# Altium footprint library ESP-01.PcbLib: 1 footprints
Each footprint in its own frame and in the unit in brackets; x right, y up, seen from the top. Pads: shape width x height; smd on the part's side, far side on the other; paste and mask are expansions set on the pad; w line width, h text height; cw(c..) or ccw(c..) is an arc to the next point about the centre after c.
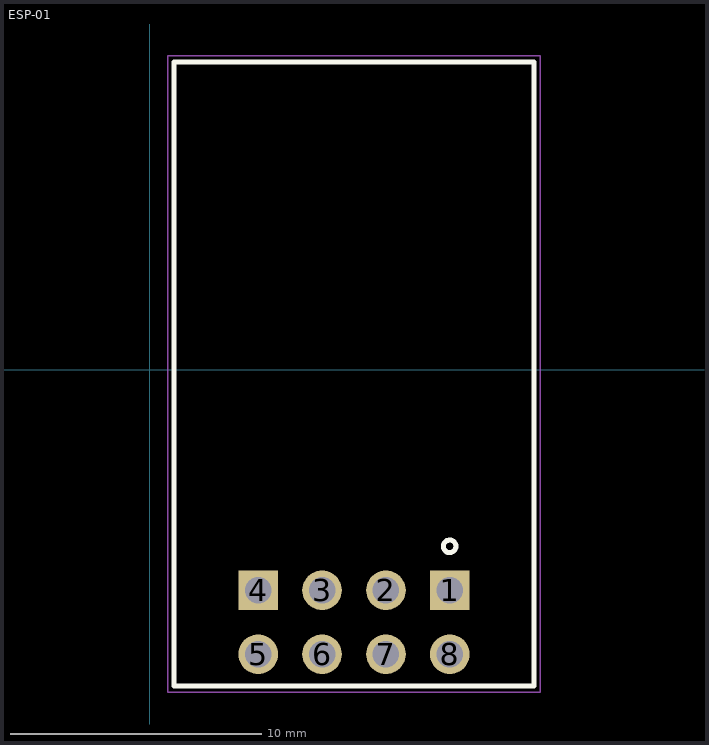
[diagram p0: the footprint, top view; thin cyan lines are the x and y axes]

## ESP-01 [mm]
pads (8):
  rect 1.575x1.575 hole 1.05: 1(11.938,-8.763) 4(4.318,-8.763)
  round 1.575 hole 1.05: 2(9.398,-8.763) 3(6.858,-8.763) 5(4.318,-11.303) 6(6.858,-11.303) 7(9.398,-11.303) 8(11.938,-11.303)
Top Overlay:
  circle w0.2: c11.928,-7.013 r0.25
  lines w0.2: 0.978,-12.573 15.278,-12.573 15.278,12.237 0.978,12.237 0.978,-12.573
Mechanical 15:
  lines w0.05: 0.728,-12.813 15.528,-12.813 15.528,12.487 0.728,12.487 0.728,-12.813
3D body "User Library-ESP8266 ESP-01.STEP": height 5.98, standoff -5.7, extent 0.762,-12.827 15.262,11.973